# Altium integrated library maxim.IntLib: 1 symbol
Pins are listed as number, name and electrical type; pins without a type are passive.

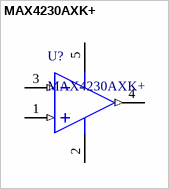
[diagram p0: symbol MAX4230AXK+]

## MAX4230AXK+
designator U?
High-Output-Drive, 10MHz, 10V/μs,  Rail-to-Rail I/O Op Amps
footprint MAXM-X5+1 (SOT23, 5-Leads, Body 2x1.25mm, Pitch 0.65mm, IPC Medium Density)
pins: 1 IN+ (in), 2 V- (power), 3 IN- (in), 4 OUT (out), 5 V+ (power)